# Altium schematic symbol library Jack_SCH_Lib1.SchLib: 64 symbols
Pins are listed as number, name and electrical type; pins without a type are passive.

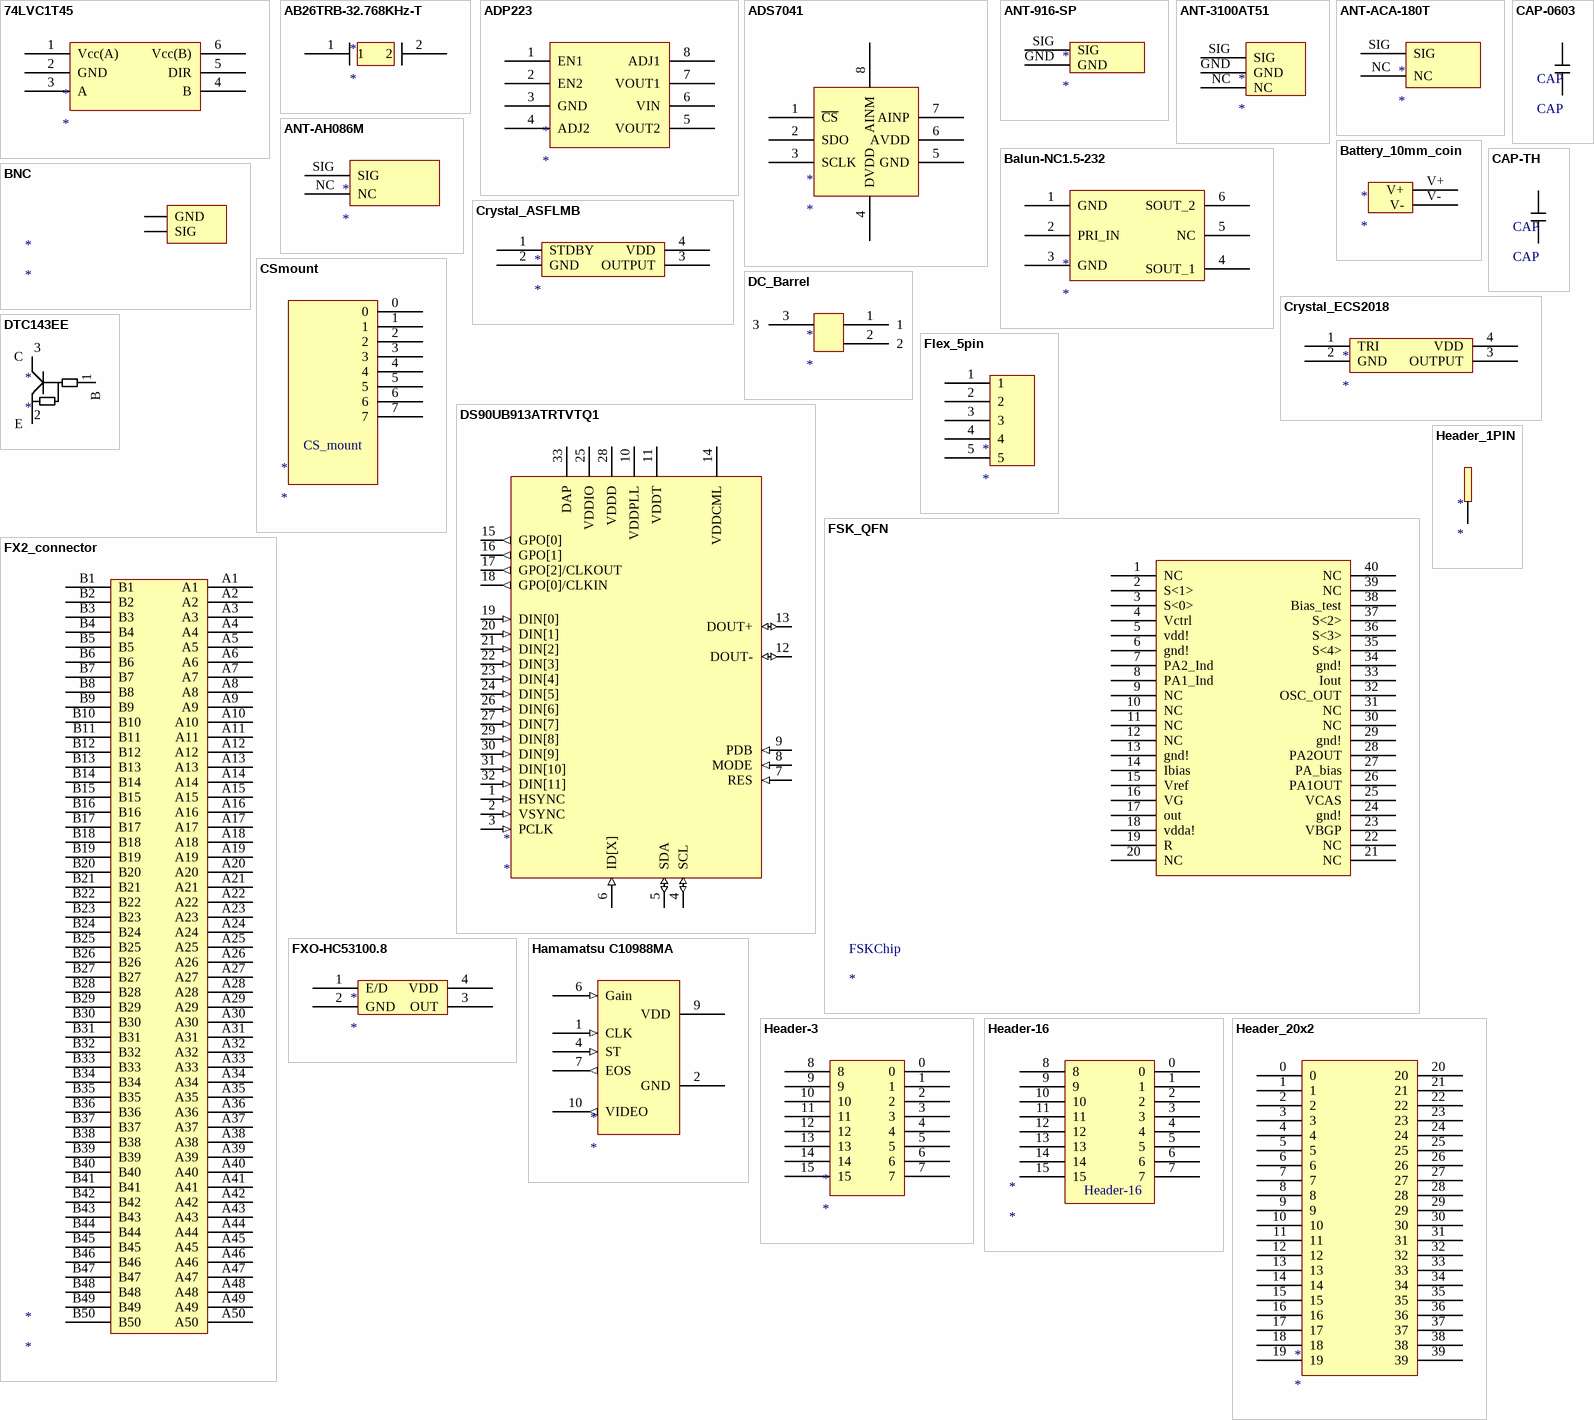
[diagram p0: symbols 74LVC1T45 to Header_20x2]

## 74LVC1T45
designator *
pins: 1 Vcc(A), 2 GND, 3 A, 4 B, 5 DIR, 6 Vcc(B)

## AB26TRB-32.768KHz-T
designator *
pins: 1, 2

## ADP223
designator *
pins: 1 EN1, 2 EN2, 3 GND, 4 ADJ2, 5 VOUT2, 6 VIN, 7 VOUT1, 8 ADJ1

## ADS7041
designator *
pins: 1 ~{CS}, 2 SDO, 3 SCLK, 4 DVDD, 5 GND, 6 AVDD, 7 AINP, 8 AINM

## ANT-916-SP
designator *
pins: GND, SIG

## ANT-3100AT51
designator *
pins: GND, NC, SIG

## ANT-ACA-180T
designator *
pins: NC, SIG

## ANT-AH086M
designator *
pins: NC, SIG

## Balun-NC1.5-232
designator *
pins: 1 GND, 2 PRI_IN, 3 GND, 4 SOUT_1, 5 NC, 6 SOUT_2

## Battery_10mm_coin
designator *
pins: V+, V-

## BNC
designator *
footprint BNC
pins: GND, SIG

## CAP-0603
designator CAP, comment CAP
Capacitor 0603 package
footprint Cap-0603 (0603 Capacitor)
pins: 1, 2

## CAP-TH
designator CAP, comment CAP
Capacitor 0603 package
footprint JUMP2PIN
pins: 1, 2

## Crystal_ASFLMB
designator *
pins: 1 STDBY, 2 GND, 3 OUTPUT, 4 VDD

## Crystal_ECS2018
designator *
pins: 1 TRI, 2 GND, 3 OUTPUT, 4 VDD

## CSmount
designator *
footprint CSmountHole
pins: 0, 1, 2, 3, 4, 5, 6, 7
text: CS_mount

## DC_Barrel
designator *
pins: 1, 2, 3

## DS90UB913ATRTVTQ1
designator *
pins: 1 HSYNC (in), 2 VSYNC (in), 3 PCLK (in), 4 SCL (io), 5 SDA (io), 6 ID[X] (in), 7 RES (in), 8 MODE (in), 9 PDB (in), 10 VDDPLL, 11 VDDT, 12 DOUT- (io), 13 DOUT+ (io), 14 VDDCML, 15 GPO[0] (out), 16 GPO[1] (out), 17 GPO[2]/CLKOUT (out), 18 GPO[0]/CLKIN (out), 19 DIN[0] (in), 20 DIN[1] (in), 21 DIN[2] (in), 22 DIN[3] (in), 23 DIN[4] (in), 24 DIN[5] (in), 25 VDDIO, 26 DIN[6] (in), 27 DIN[7] (in), 28 VDDD, 29 DIN[8] (in), 30 DIN[9] (in), 31 DIN[10] (in), 32 DIN[11] (in), 33 DAP

## DTC143EE
designator *
pins: 1 B, 2 E, 3 C

## Flex_5pin
designator *
pins: 1, 2, 3, 4, 5

## FSK_QFN
designator FSKChip
footprint QFN50P600X600X80_HS-41N_R2 (QFN, 40-Leads, Body 6.00x6.00mm, Pitch 0.50mm, Thermal Pad 4.24x4.24mm, IPC Medium Density)
pins: 1 NC, 2 S<1>, 3 S<0>, 4 Vctrl, 5 vdd!, 6 gnd!, 7 PA2_Ind, 8 PA1_Ind, 9 NC, 10 NC, 11 NC, 12 NC, 13 gnd!, 14 Ibias, 15 Vref, 16 VG, 17 out, 18 vdda!, 19 R, 20 NC, 21 NC, 22 NC, 23 VBGP, 24 gnd!, 25 VCAS, 26 PA1OUT, 27 PA_bias, 28 PA2OUT, 29 gnd!, 30 NC, 31 NC, 32 OSC_OUT, 33 Iout, 34 gnd!, 35 S<4>, 36 S<3>, 37 S<2>, 38 Bias_test, 39 NC, 40 NC

## FX2_connector
designator *
footprint FX2-Connector
pins: A1, A2, A3, A4, A5, A6, A7, A8, A9, A10, A11, A12, A13, A14, A15, A16, A17, A18, A19, A20, A21, A22, A23, A24, A25, A26, A27, A28, A29, A30, A31, A32, A33, A34, A35, A36, A37, A38, A39, A40, A41, A42, A43, A44, A45, A46, A47, A48, A49, A50, B1, B2, B3, B4, B5, B6, B7, B8, B9, B10, B11, B12, B13, B14, B15, B16, B17, B18, B19, B20, B21, B22, B23, B24, B25, B26, B27, B28, B29, B30, B31, B32, B33, B34, B35, B36, B37, B38, B39, B40, B41, B42, B43, B44, B45, B46, B47, B48, B49, B50

## FXO-HC53100.8
designator *
pins: 1 E/D, 2 GND, 3 OUT, 4 VDD

## Hamamatsu C10988MA
designator *
pins: 1 CLK (in), 2 GND (power), 4 ST (in), 6 Gain (in), 7 EOS (out), 9 VDD (power), 10 VIDEO (out)

## Header-3
designator *
pins: 0, 1, 2, 3, 4, 5, 6, 7, 8, 9, 10, 11, 12, 13, 14, 15

## Header-16
designator *
pins: 0, 1, 2, 3, 4, 5, 6, 7, 8, 9, 10, 11, 12, 13, 14, 15

## Header_1PIN
designator *
footprint JUMPER1PIN
pins: 0

## Header_20x2
designator *
pins: 0, 1, 2, 3, 4, 5, 6, 7, 8, 9, 10, 11, 12, 13, 14, 15, 16, 17, 18, 19, 20, 21, 22, 23, 24, 25, 26, 27, 28, 29, 30, 31, 32, 33, 34, 35, 36, 37, 38, 39

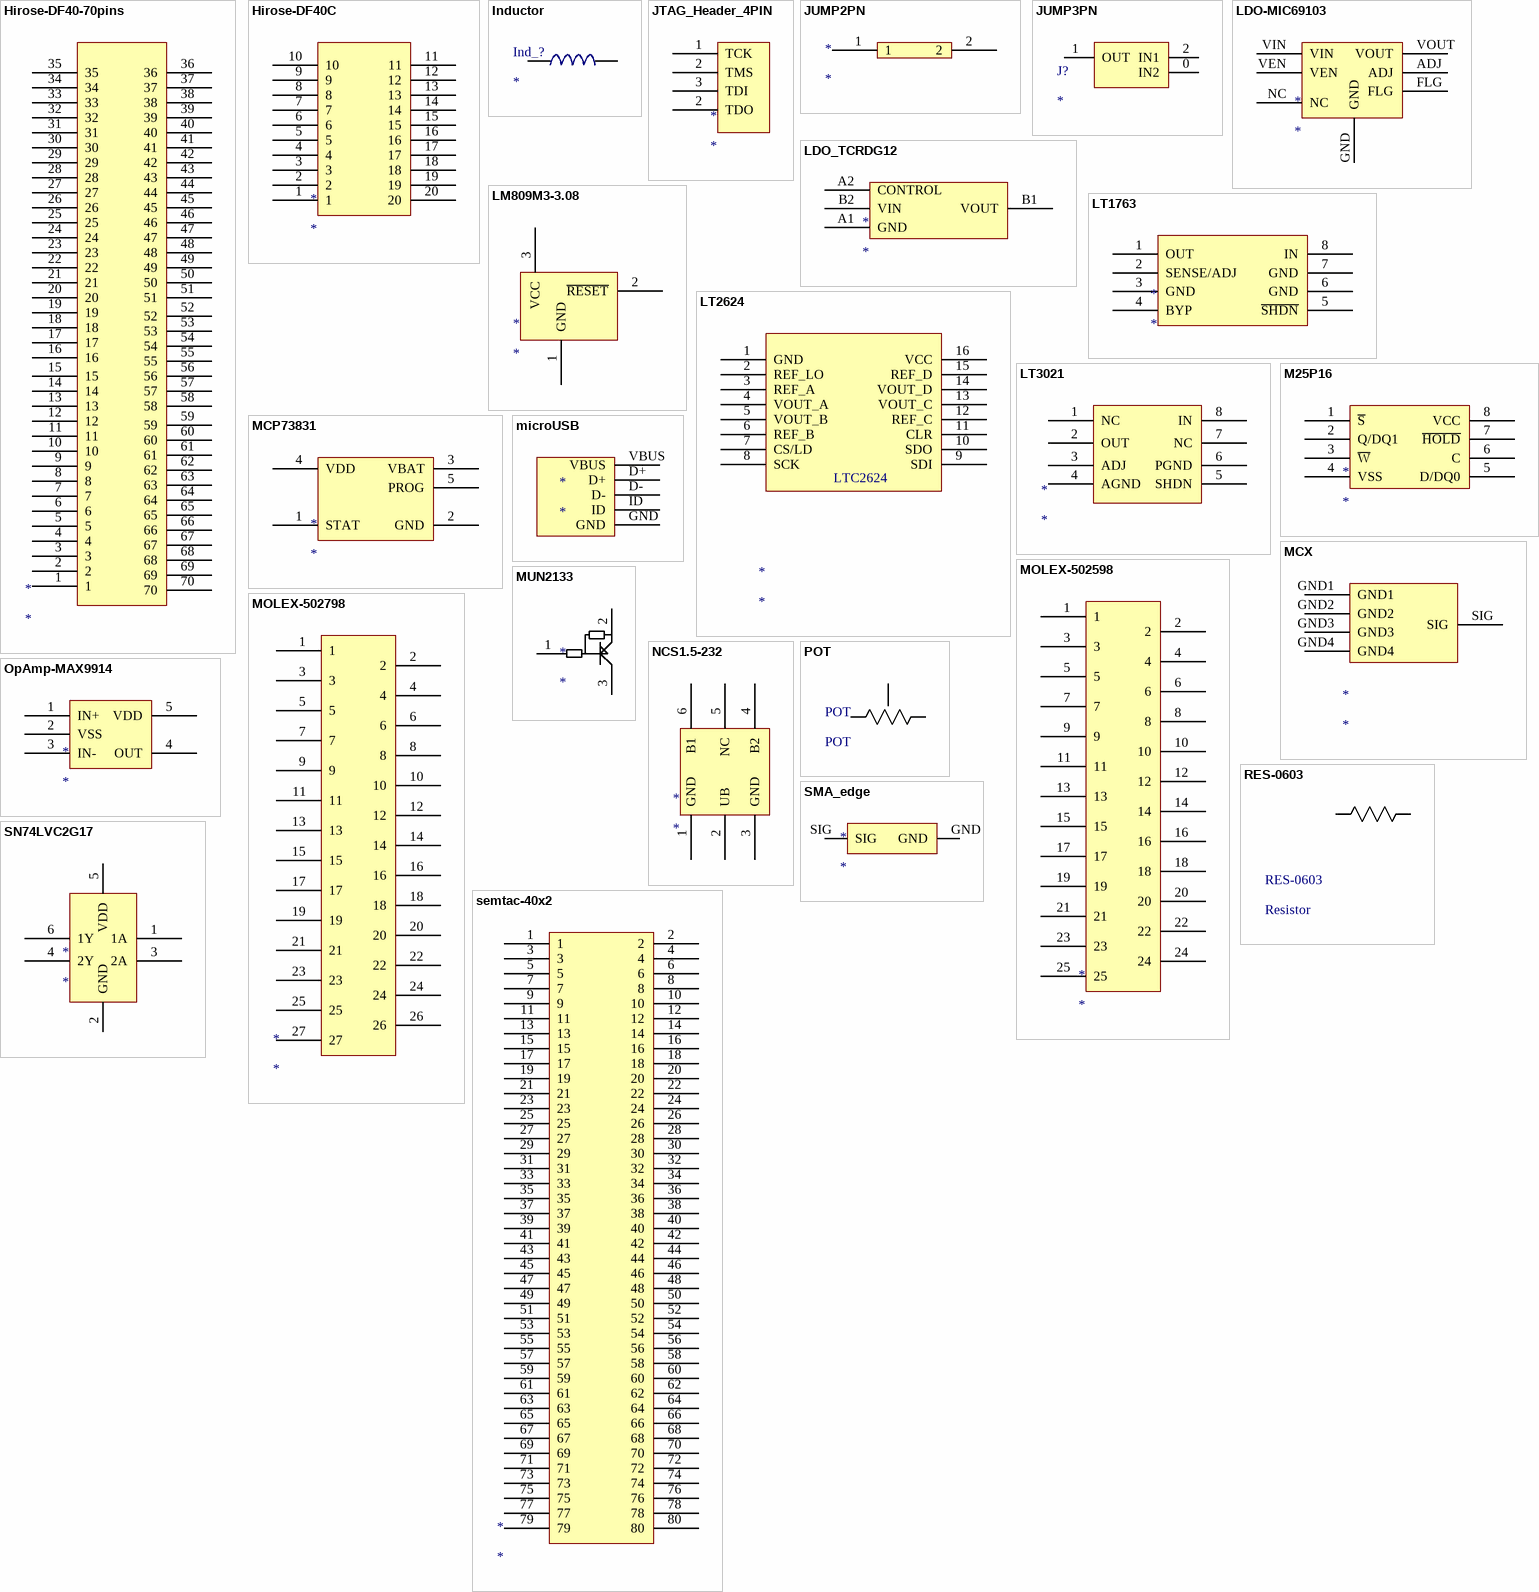
[diagram p1: symbols Hirose-DF40-70pins to SN74LVC2G17]

## Hirose-DF40-70pins
designator *
pins: 1, 2, 3, 4, 5, 6, 7, 8, 9, 10, 11, 12, 13, 14, 15, 16, 17, 18, 19, 20, 21, 22, 23, 24, 25, 26, 27, 28, 29, 30, 31, 32, 33, 34, 35, 36, 37, 38, 39, 40, 41, 42, 43, 44, 45, 46, 47, 48, 49, 50, 51, 52, 53, 54, 55, 56, 57, 58, 59, 60, 61, 62, 63, 64, 65, 66, 67, 68, 69, 70

## Hirose-DF40C
designator *
pins: 1, 2, 3, 4, 5, 6, 7, 8, 9, 10, 11, 12, 13, 14, 15, 16, 17, 18, 19, 20

## Inductor
designator Ind_?
footprint Ind-0603 (inductor 0603)
pins: 1, 2

## JTAG_Header_4PIN
designator *
pins: 1 TCK, 2 TMS, 2 TDO, 3 TDI

## JUMP2PN
designator *
footprint JUMP2PIN
pins: 1, 2

## JUMP3PN
designator J?
footprint JUMP3PIN (2_54mmX2_54mm)
pins: 0 IN2, 1 OUT, 2 IN1

## LDO-MIC69103
designator *
pins: ADJ, FLG, GND, NC, VEN, VIN, VOUT

## LDO_TCRDG12
designator *
pins: A1 GND, A2 CONTROL, B1 VOUT, B2 VIN

## LM809M3-3.08
designator *
pins: 1 GND, 2 ~{RESET}, 3 VCC

## LT1763
designator *
pins: 1 OUT, 2 SENSE/ADJ, 3 GND, 4 BYP, 5 ~{SHDN}, 6 GND, 7 GND, 8 IN

## LT2624
designator *
pins: 1 GND, 2 REF_LO, 3 REF_A, 4 VOUT_A, 5 VOUT_B, 6 REF_B, 7 CS/LD, 8 SCK, 9 SDI, 10 SDO, 11 CLR, 12 REF_C, 13 VOUT_C, 14 VOUT_D, 15 REF_D, 16 VCC
text: LTC2624

## LT3021
designator *
footprint SOIC8PIN (SOIC, 8-Leads, Body 4.90x3.90mm, Pitch 1.27mm, IPC Medium Density)
pins: 1 NC, 2 OUT, 3 ADJ, 4 AGND, 5 SHDN, 6 PGND, 7 NC, 8 IN

## M25P16
designator *
pins: 1 ~{S}, 2 Q/DQ1, 3 ~{W}, 4 VSS, 5 D/DQ0, 6 C, 7 ~{HOLD}, 8 VCC

## MCP73831
designator *
pins: 1 STAT, 2 GND, 3 VBAT, 4 VDD, 5 PROG

## MCX
designator *
pins: GND1, GND2, GND3, GND4, SIG

## microUSB
designator *
pins: D+, D-, GND, ID, VBUS

## MOLEX-502598
designator *
pins: 1, 2, 3, 4, 5, 6, 7, 8, 9, 10, 11, 12, 13, 14, 15, 16, 17, 18, 19, 20, 21, 22, 23, 24, 25

## MOLEX-502798
designator *
pins: 1, 2, 3, 4, 5, 6, 7, 8, 9, 10, 11, 12, 13, 14, 15, 16, 17, 18, 19, 20, 21, 22, 23, 24, 25, 26, 27

## MUN2133
designator *
pins: 1 B, 2 E, 3 C

## NCS1.5-232
designator *
pins: 1 GND, 2 UB, 3 GND, 4 B2, 5 NC, 6 B1

## OpAmp-MAX9914
designator *
pins: 1 IN+, 2 VSS, 3 IN-, 4 OUT, 5 VDD

## POT
designator POT
footprint JUMP3PIN (2_54mmX2_54mm)
pins: 0, 1, 2

## RES-0603
designator RES-0603, comment Resistor
RES
footprint RES_0603
pins: 1, 2

## semtac-40x2
designator *
pins: 1, 2, 3, 4, 5, 6, 7, 8, 9, 10, 11, 12, 13, 14, 15, 16, 17, 18, 19, 20, 21, 22, 23, 24, 25, 26, 27, 28, 29, 30, 31, 32, 33, 34, 35, 36, 37, 38, 39, 40, 41, 42, 43, 44, 45, 46, 47, 48, 49, 50, 51, 52, 53, 54, 55, 56, 57, 58, 59, 60, 61, 62, 63, 64, 65, 66, 67, 68, 69, 70, 71, 72, 73, 74, 75, 76, 77, 78, 79, 80

## SMA_edge
designator *
pins: GND, SIG

## SN74LVC2G17
designator *
pins: 1 1A, 2 GND, 3 2A, 4 2Y, 5 VDD, 6 1Y

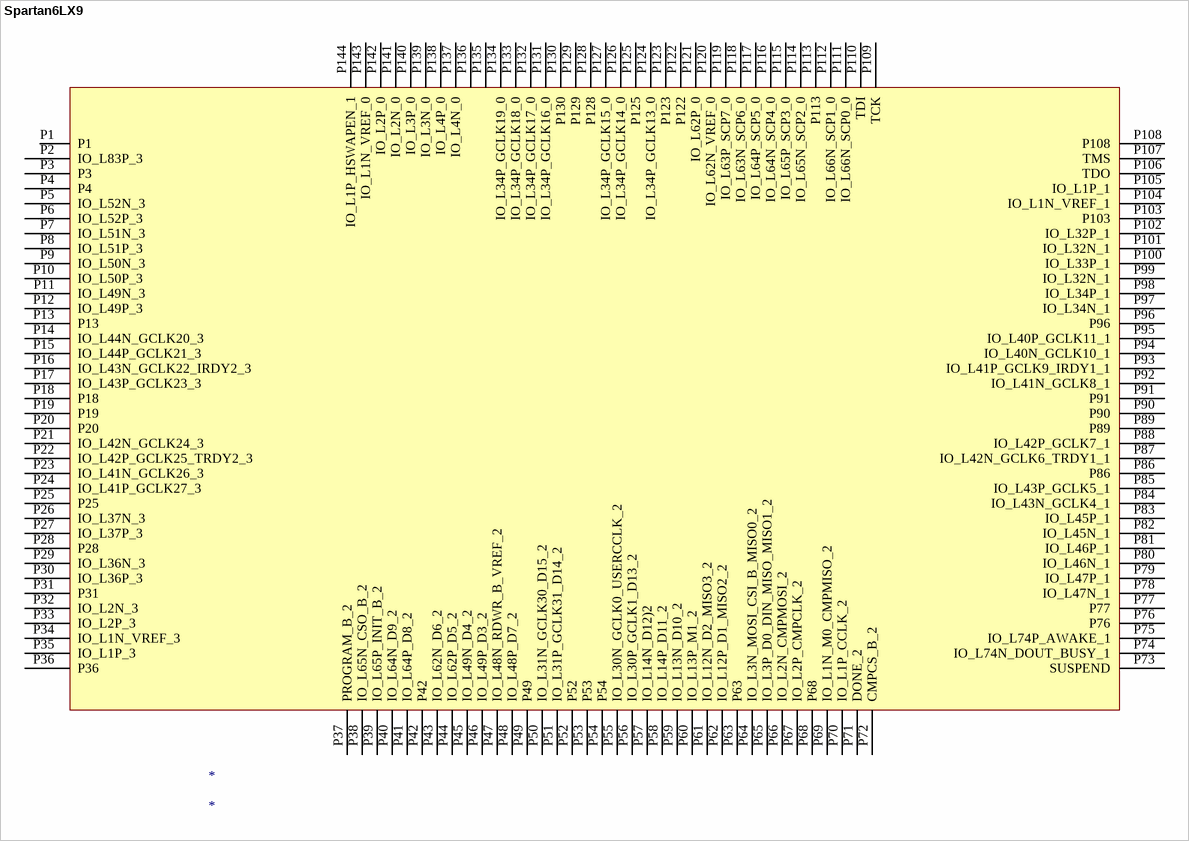
[diagram p2: symbol Spartan6LX9]

## Spartan6LX9
designator *
pins: P1, P2 IO_L83P_3, P3, P4, P5 IO_L52N_3, P6 IO_L52P_3, P7 IO_L51N_3, P8 IO_L51P_3, P9 IO_L50N_3, P10 IO_L50P_3, P11 IO_L49N_3, P12 IO_L49P_3, P13, P14 IO_L44N_GCLK20_3, P15 IO_L44P_GCLK21_3, P16 IO_L43N_GCLK22_IRDY2_3, P17 IO_L43P_GCLK23_3, P18, P19, P20, P21 IO_L42N_GCLK24_3, P22 IO_L42P_GCLK25_TRDY2_3, P23 IO_L41N_GCLK26_3, P24 IO_L41P_GCLK27_3, P25, P26 IO_L37N_3, P27 IO_L37P_3, P28, P29 IO_L36N_3, P30 IO_L36P_3, P31, P32 IO_L2N_3, P33 IO_L2P_3, P34 IO_L1N_VREF_3, P35 IO_L1P_3, P36, P37 PROGRAM_B_2, P38 IO_L65N_CSO_B_2, P39 IO_L65P_INIT_B_2, P40 IO_L64N_D9_2, P41 IO_L64P_D8_2, P42, P43 IO_L62N_D6_2, P44 IO_L62P_D5_2, P45 IO_L49N_D4_2, P46 IO_L49P_D3_2, P47 IO_L48N_RDWR_B_VREF_2, P48 IO_L48P_D7_2, P49, P50 IO_L31N_GCLK30_D15_2, P51 IO_L31P_GCLK31_D14_2, P52, P53, P54, P55 IO_L30N_GCLK0_USERCCLK_2, P56 IO_L30P_GCLK1_D13_2, P57 IO_L14N_D12)2, P58 IO_L14P_D11_2, P59 IO_L13N_D10_2, P60 IO_L13P_M1_2, P61 IO_L12N_D2_MISO3_2, P62 IO_L12P_D1_MISO2_2, P63, P64 IO_L3N_MOSI_CSI_B_MISO0_2, P65 IO_L3P_D0_DIN_MISO_MISO1_2, P66 IO_L2N_CMPMOSI_2, P67 IO_L2P_CMPCLK_2, P68, P69 IO_L1N_M0_CMPMISO_2, P70 IO_L1P_CCLK_2, P71 DONE_2, P72 CMPCS_B_2, P73 SUSPEND, P74 IO_L74N_DOUT_BUSY_1, P75 IO_L74P_AWAKE_1, P76, P77, P78 IO_L47N_1, P79 IO_L47P_1, P80 IO_L46N_1, P81 IO_L46P_1, P82 IO_L45N_1, P83 IO_L45P_1, P84 IO_L43N_GCLK4_1, P85 IO_L43P_GCLK5_1, P86, P87 IO_L42N_GCLK6_TRDY1_1, P88 IO_L42P_GCLK7_1, P89, P90, P91, P92 IO_L41N_GCLK8_1, P93 IO_L41P_GCLK9_IRDY1_1, P94 IO_L40N_GCLK10_1, P95 IO_L40P_GCLK11_1, P96, P97 IO_L34N_1, P98 IO_L34P_1, P99 IO_L32N_1, P100 IO_L33P_1, P101 IO_L32N_1, P102 IO_L32P_1, P103, P104 IO_L1N_VREF_1, P105 IO_L1P_1, P106 TDO, P107 TMS, P108, P109 TCK, P110 TDI, P111 IO_L66N_SCP0_0, P112 IO_L66N_SCP1_0, P113, P114 IO_L65N_SCP2_0, P115 IO_L65P_SCP3_0, P116 IO_L64N_SCP4_0, P117 IO_L64P_SCP5_0, P118 IO_L63N_SCP6_0, P119 IO_L63P_SCP7_0, P120 IO_L62N_VREF_0, P121 IO_L62P_0, P122, P123, P124 IO_L34P_GCLK13_0, P125, P126 IO_L34P_GCLK14_0, P127 IO_L34P_GCLK15_0, P128, P129, P130, P131 IO_L34P_GCLK16_0, P132 IO_L34P_GCLK17_0, P133 IO_L34P_GCLK18_0, P134 IO_L34P_GCLK19_0, P135, P136, P137 IO_L4N_0, P138 IO_L4P_0, P139 IO_L3N_0, P140 IO_L3P_0, P141 IO_L2N_0, P142 IO_L2P_0, P143 IO_L1N_VREF_0, P144 IO_L1P_HSWAPEN_1

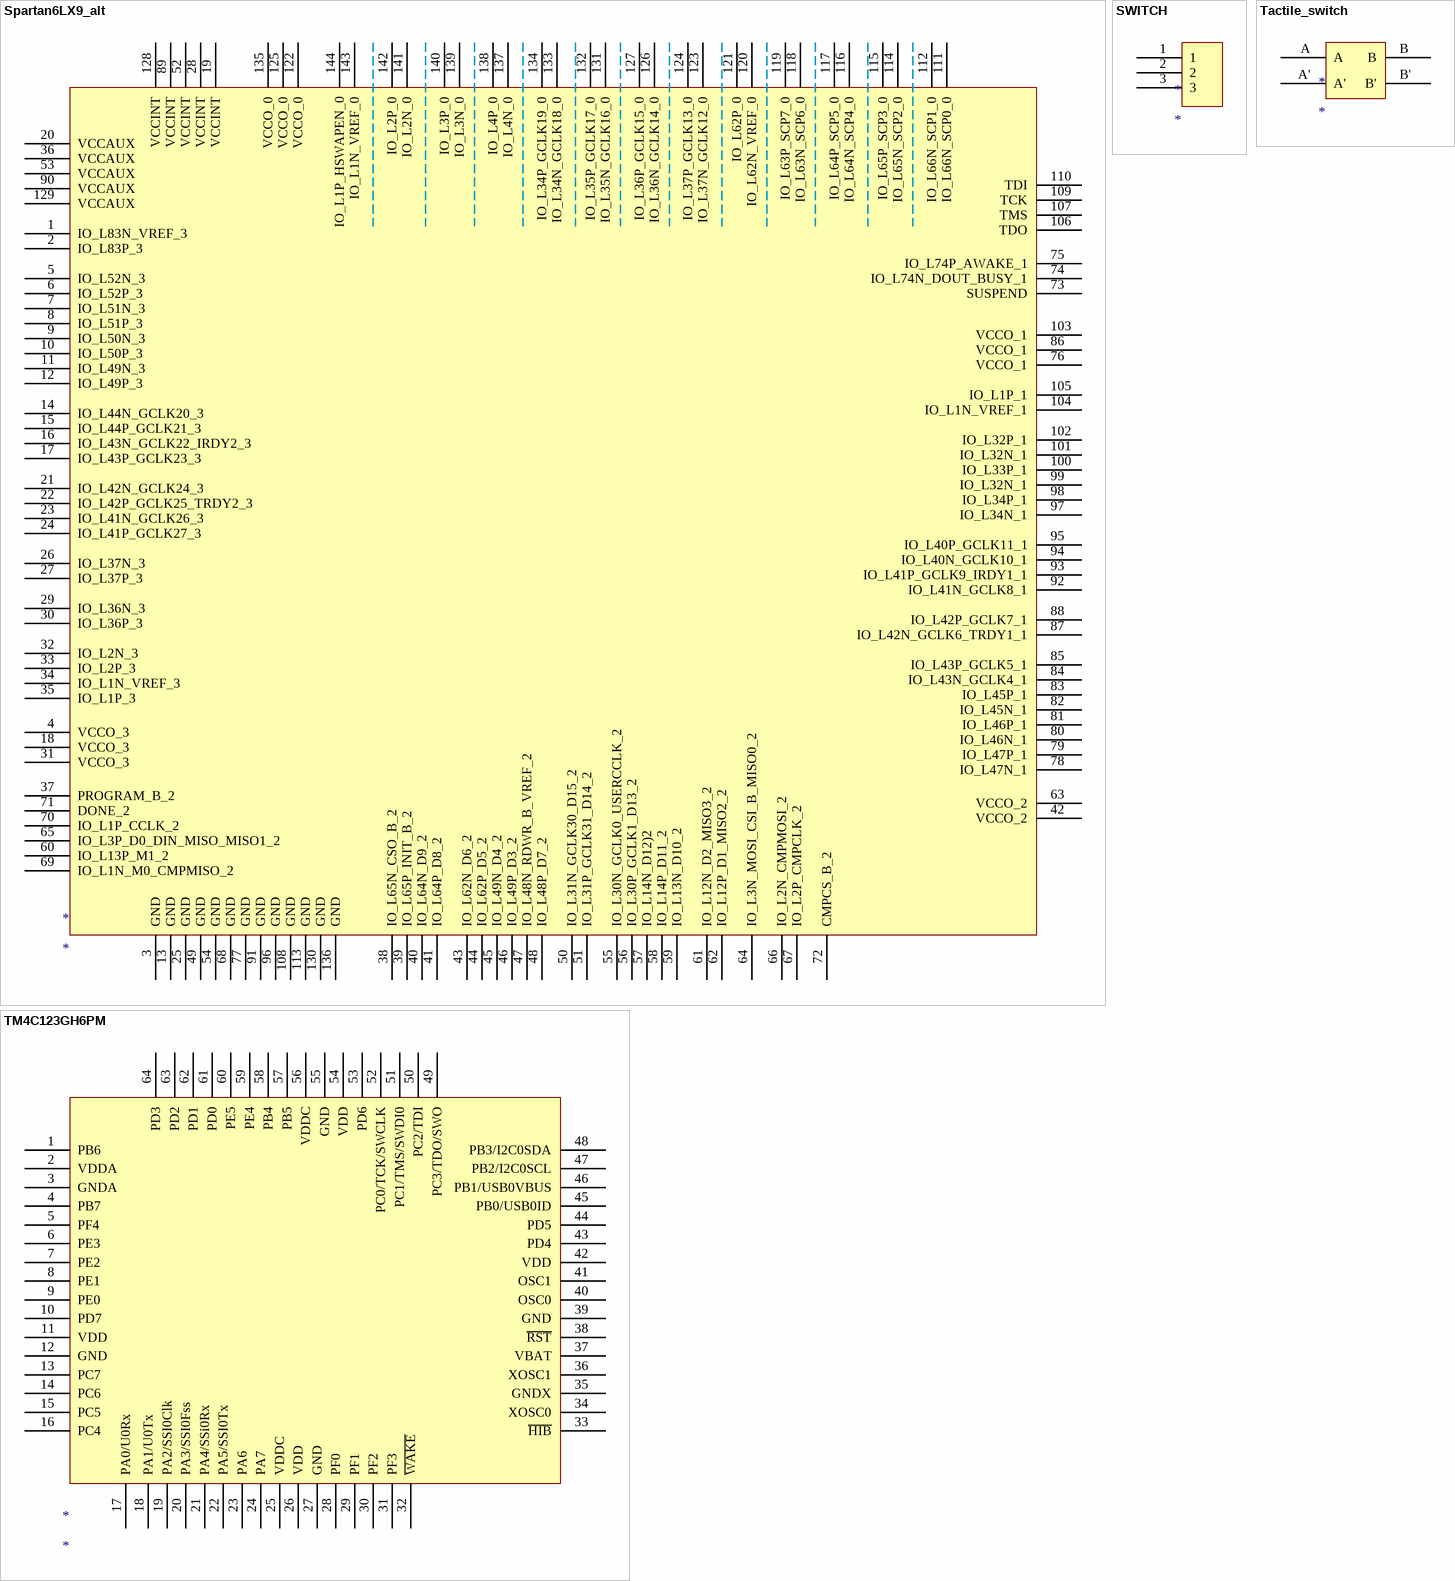
[diagram p3: symbols Spartan6LX9_alt to TM4C123GH6PM]

## Spartan6LX9_alt
designator *
pins: 1 IO_L83N_VREF_3, 2 IO_L83P_3, 3 GND, 4 VCCO_3, 5 IO_L52N_3, 6 IO_L52P_3, 7 IO_L51N_3, 8 IO_L51P_3, 9 IO_L50N_3, 10 IO_L50P_3, 11 IO_L49N_3, 12 IO_L49P_3, 13 GND, 14 IO_L44N_GCLK20_3, 15 IO_L44P_GCLK21_3, 16 IO_L43N_GCLK22_IRDY2_3, 17 IO_L43P_GCLK23_3, 18 VCCO_3, 19 VCCINT, 20 VCCAUX, 21 IO_L42N_GCLK24_3, 22 IO_L42P_GCLK25_TRDY2_3, 23 IO_L41N_GCLK26_3, 24 IO_L41P_GCLK27_3, 25 GND, 26 IO_L37N_3, 27 IO_L37P_3, 28 VCCINT, 29 IO_L36N_3, 30 IO_L36P_3, 31 VCCO_3, 32 IO_L2N_3, 33 IO_L2P_3, 34 IO_L1N_VREF_3, 35 IO_L1P_3, 36 VCCAUX, 37 PROGRAM_B_2, 38 IO_L65N_CSO_B_2, 39 IO_L65P_INIT_B_2, 40 IO_L64N_D9_2, 41 IO_L64P_D8_2, 42 VCCO_2, 43 IO_L62N_D6_2, 44 IO_L62P_D5_2, 45 IO_L49N_D4_2, 46 IO_L49P_D3_2, 47 IO_L48N_RDWR_B_VREF_2, 48 IO_L48P_D7_2, 49 GND, 50 IO_L31N_GCLK30_D15_2, 51 IO_L31P_GCLK31_D14_2, 52 VCCINT, 53 VCCAUX, 54 GND, 55 IO_L30N_GCLK0_USERCCLK_2, 56 IO_L30P_GCLK1_D13_2, 57 IO_L14N_D12)2, 58 IO_L14P_D11_2, 59 IO_L13N_D10_2, 60 IO_L13P_M1_2, 61 IO_L12N_D2_MISO3_2, 62 IO_L12P_D1_MISO2_2, 63 VCCO_2, 64 IO_L3N_MOSI_CSI_B_MISO0_2, 65 IO_L3P_D0_DIN_MISO_MISO1_2, 66 IO_L2N_CMPMOSI_2, 67 IO_L2P_CMPCLK_2, 68 GND, 69 IO_L1N_M0_CMPMISO_2, 70 IO_L1P_CCLK_2, 71 DONE_2, 72 CMPCS_B_2, 73 SUSPEND, 74 IO_L74N_DOUT_BUSY_1, 75 IO_L74P_AWAKE_1, 76 VCCO_1, 77 GND, 78 IO_L47N_1, 79 IO_L47P_1, 80 IO_L46N_1, 81 IO_L46P_1, 82 IO_L45N_1, 83 IO_L45P_1, 84 IO_L43N_GCLK4_1, 85 IO_L43P_GCLK5_1, 86 VCCO_1, 87 IO_L42N_GCLK6_TRDY1_1, 88 IO_L42P_GCLK7_1, 89 VCCINT, 90 VCCAUX, 91 GND, 92 IO_L41N_GCLK8_1, 93 IO_L41P_GCLK9_IRDY1_1, 94 IO_L40N_GCLK10_1, 95 IO_L40P_GCLK11_1, 96 GND, 97 IO_L34N_1, 98 IO_L34P_1, 99 IO_L32N_1, 100 IO_L33P_1, 101 IO_L32N_1, 102 IO_L32P_1, 103 VCCO_1, 104 IO_L1N_VREF_1, 105 IO_L1P_1, 106 TDO, 107 TMS, 108 GND, 109 TCK, 110 TDI, 111 IO_L66N_SCP0_0, 112 IO_L66N_SCP1_0, 113 GND, 114 IO_L65N_SCP2_0, 115 IO_L65P_SCP3_0, 116 IO_L64N_SCP4_0, 117 IO_L64P_SCP5_0, 118 IO_L63N_SCP6_0, 119 IO_L63P_SCP7_0, 120 IO_L62N_VREF_0, 121 IO_L62P_0, 122 VCCO_0, 123 IO_L37N_GCLK12_0, 124 IO_L37P_GCLK13_0, 125 VCCO_0, 126 IO_L36N_GCLK14_0, 127 IO_L36P_GCLK15_0, 128 VCCINT, 129 VCCAUX, 130 GND, 131 IO_L35N_GCLK16_0, 132 IO_L35P_GCLK17_0, 133 IO_L34N_GCLK18_0, 134 IO_L34P_GCLK19_0, 135 VCCO_0, 136 GND, 137 IO_L4N_0, 138 IO_L4P_0, 139 IO_L3N_0, 140 IO_L3P_0, 141 IO_L2N_0, 142 IO_L2P_0, 143 IO_L1N_VREF_0, 144 IO_L1P_HSWAPEN_0

## SWITCH
designator *
pins: 1, 2, 3

## Tactile_switch
designator *
pins: A, A', B, B'

## TM4C123GH6PM
designator *
pins: 1 PB6, 2 VDDA, 3 GNDA, 4 PB7, 5 PF4, 6 PE3, 7 PE2, 8 PE1, 9 PE0, 10 PD7, 11 VDD, 12 GND, 13 PC7, 14 PC6, 15 PC5, 16 PC4, 17 PA0/U0Rx, 18 PA1/U0Tx, 19 PA2/SSI0Clk, 20 PA3/SSI0Fss, 21 PA4/SSi0Rx, 22 PA5/SSI0Tx, 23 PA6, 24 PA7, 25 VDDC, 26 VDD, 27 GND, 28 PF0, 29 PF1, 30 PF2, 31 PF3, 32 ~{WAKE}, 33 ~{HIB}, 34 XOSC0, 35 GNDX, 36 XOSC1, 37 VBAT, 38 ~{RST}, 39 GND, 40 OSC0, 41 OSC1, 42 VDD, 43 PD4, 44 PD5, 45 PB0/USB0ID, 46 PB1/USB0VBUS, 47 PB2/I2C0SCL, 48 PB3/I2C0SDA, 49 PC3/TDO/SWO, 50 PC2/TDI, 51 PC1/TMS/SWDI0, 52 PC0/TCK/SWCLK, 53 PD6, 54 VDD, 55 GND, 56 VDDC, 57 PB5, 58 PB4, 59 PE4, 60 PE5, 61 PD0, 62 PD1, 63 PD2, 64 PD3

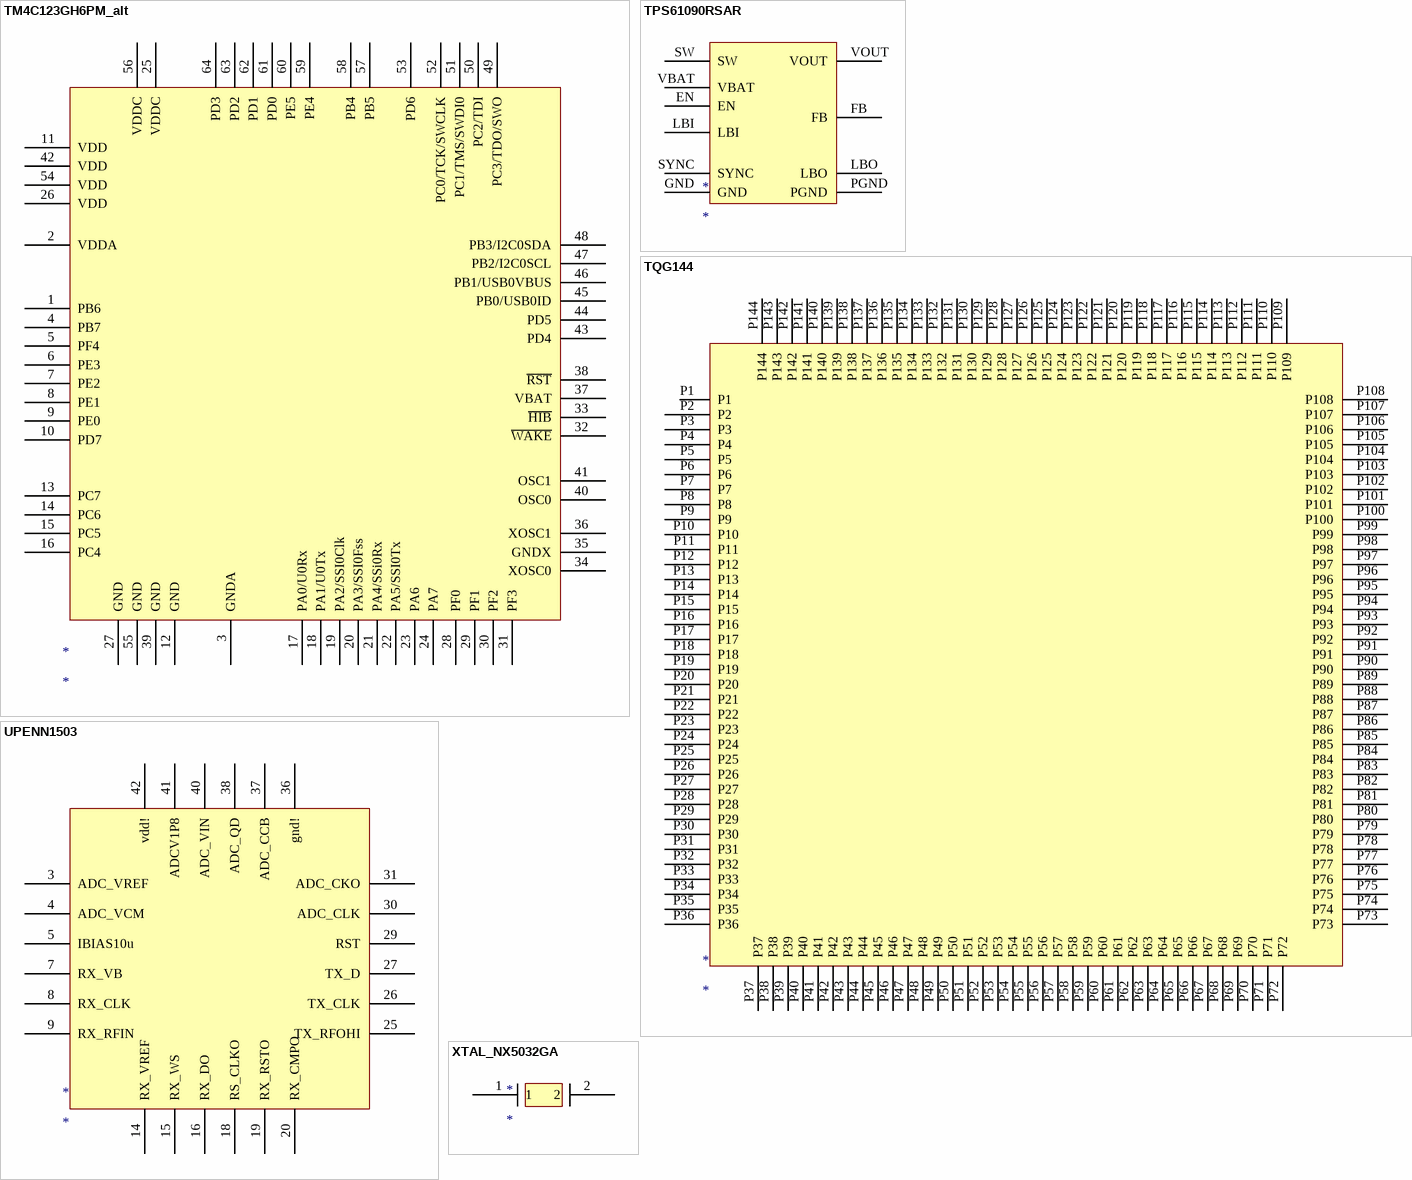
[diagram p4: symbols TM4C123GH6PM_alt to XTAL_NX5032GA]

## TM4C123GH6PM_alt
designator *
pins: 1 PB6, 2 VDDA, 3 GNDA, 4 PB7, 5 PF4, 6 PE3, 7 PE2, 8 PE1, 9 PE0, 10 PD7, 11 VDD, 12 GND, 13 PC7, 14 PC6, 15 PC5, 16 PC4, 17 PA0/U0Rx, 18 PA1/U0Tx, 19 PA2/SSI0Clk, 20 PA3/SSI0Fss, 21 PA4/SSi0Rx, 22 PA5/SSI0Tx, 23 PA6, 24 PA7, 25 VDDC, 26 VDD, 27 GND, 28 PF0, 29 PF1, 30 PF2, 31 PF3, 32 ~{WAKE}, 33 ~{HIB}, 34 XOSC0, 35 GNDX, 36 XOSC1, 37 VBAT, 38 ~{RST}, 39 GND, 40 OSC0, 41 OSC1, 42 VDD, 43 PD4, 44 PD5, 45 PB0/USB0ID, 46 PB1/USB0VBUS, 47 PB2/I2C0SCL, 48 PB3/I2C0SDA, 49 PC3/TDO/SWO, 50 PC2/TDI, 51 PC1/TMS/SWDI0, 52 PC0/TCK/SWCLK, 53 PD6, 54 VDD, 55 GND, 56 VDDC, 57 PB5, 58 PB4, 59 PE4, 60 PE5, 61 PD0, 62 PD1, 63 PD2, 64 PD3

## TPS61090RSAR
designator *
pins: EN, FB, GND, LBI, LBO, PGND, SW, SYNC, VBAT, VOUT

## TQG144
designator *
pins: P1, P2, P3, P4, P5, P6, P7, P8, P9, P10, P11, P12, P13, P14, P15, P16, P17, P18, P19, P20, P21, P22, P23, P24, P25, P26, P27, P28, P29, P30, P31, P32, P33, P34, P35, P36, P37, P38, P39, P40, P41, P42, P43, P44, P45, P46, P47, P48, P49, P50, P51, P52, P53, P54, P55, P56, P57, P58, P59, P60, P61, P62, P63, P64, P65, P66, P67, P68, P69, P70, P71, P72, P73, P74, P75, P76, P77, P78, P79, P80, P81, P82, P83, P84, P85, P86, P87, P88, P89, P90, P91, P92, P93, P94, P95, P96, P97, P98, P99, P100, P101, P102, P103, P104, P105, P106, P107, P108, P109, P110, P111, P112, P113, P114, P115, P116, P117, P118, P119, P120, P121, P122, P123, P124, P125, P126, P127, P128, P129, P130, P131, P132, P133, P134, P135, P136, P137, P138, P139, P140, P141, P142, P143, P144

## UPENN1503
designator *
pins: 3 ADC_VREF, 4 ADC_VCM, 5 IBIAS10u, 7 RX_VB, 8 RX_CLK, 9 RX_RFIN, 14 RX_VREF, 15 RX_WS, 16 RX_DO, 18 RS_CLKO, 19 RX_RSTO, 20 RX_CMPO, 25 TX_RFOHI, 26 TX_CLK, 27 TX_D, 29 RST, 30 ADC_CLK, 31 ADC_CKO, 36 gnd!, 37 ADC_CCB, 38 ADC_QD, 40 ADC_VIN, 41 ADCV1P8, 42 vdd!

## XTAL_NX5032GA
designator *
pins: 1, 2